# Altium schematic symbol library sx1308.SchLib: 1 symbol
Pins are listed as number, name and electrical type; pins without a type are passive.

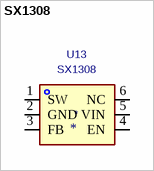
[diagram p0: symbol SX1308]

## SX1308
designator *  value SX1308  Reference: U13
Footprint: easyeda2kicad:SOT-23-6_L2.9-W1.6-P0.95-LS2.8-BL; Datasheet: https://lcsc.com/product-detail/DC-DC-Converters_SX1308_C78162.html; LCSC Part: C78162
pins: 1 SW, 2 GND, 3 FB, 4 EN, 5 VIN, 6 NC